# EAGLE library part MAX3221CAE+T-AD (library MAX3221CAE+T-AD)
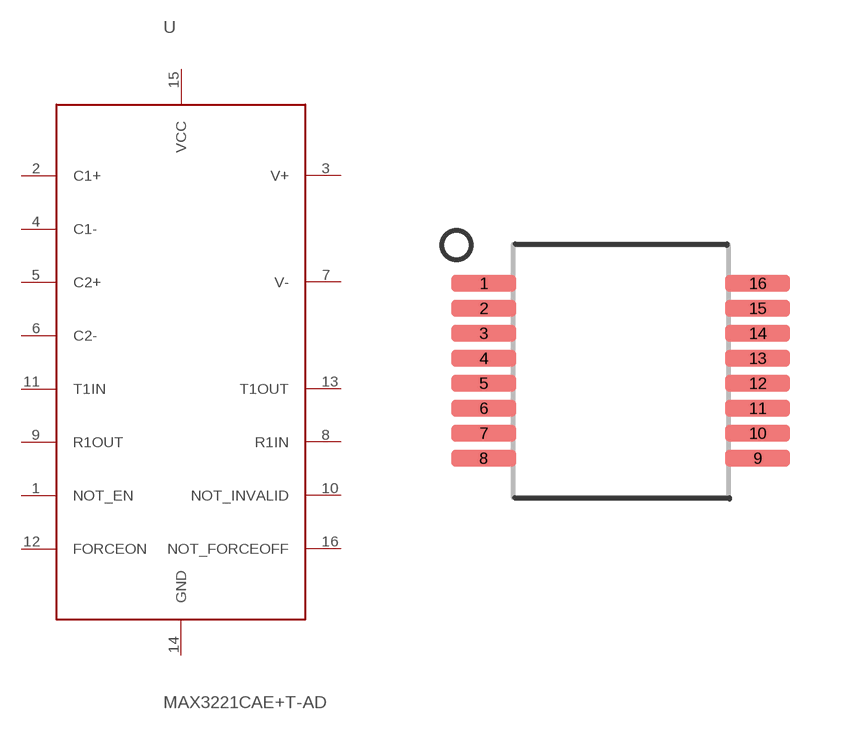
[diagram p0: symbol with the pads of 16-SSOP; footprint 16-SSOP]

Designator prefix U

## MAX3221CAE+T-AD  [16-SSOP]
1  NOT_EN  pas
2  C1+  pas
3  V+  pas
4  C1-  pas
5  C2+  pas
6  C2-  pas
7  V-  pas
8  R1IN  in
9  R1OUT  out
10  NOT_INVALID  pas
11  T1IN  in
12  FORCEON  pwr
13  T1OUT  out
14  GND  pwr
15  VCC  pwr
16  NOT_FORCEOFF  pwr

## Footprint 16-SSOP (pad centres in mm)
smd 1.63 x 0.42: 1 -3.425,2.188; 2 -3.425,1.562; 3 -3.425,0.938; 4 -3.425,0.312; 5 -3.425,-0.312; 6 -3.425,-0.938; 7 -3.425,-1.562; 8 -3.425,-2.188; 9 3.425,-2.188; 10 3.425,-1.562; 11 3.425,-0.938; 12 3.425,-0.312; 13 3.425,0.312; 14 3.425,0.938; 15 3.425,1.562; 16 3.425,2.188